# EAGLE library part ISA8-EDGE (library 8Bit_Parts)
8 bits ISA bus edge connector
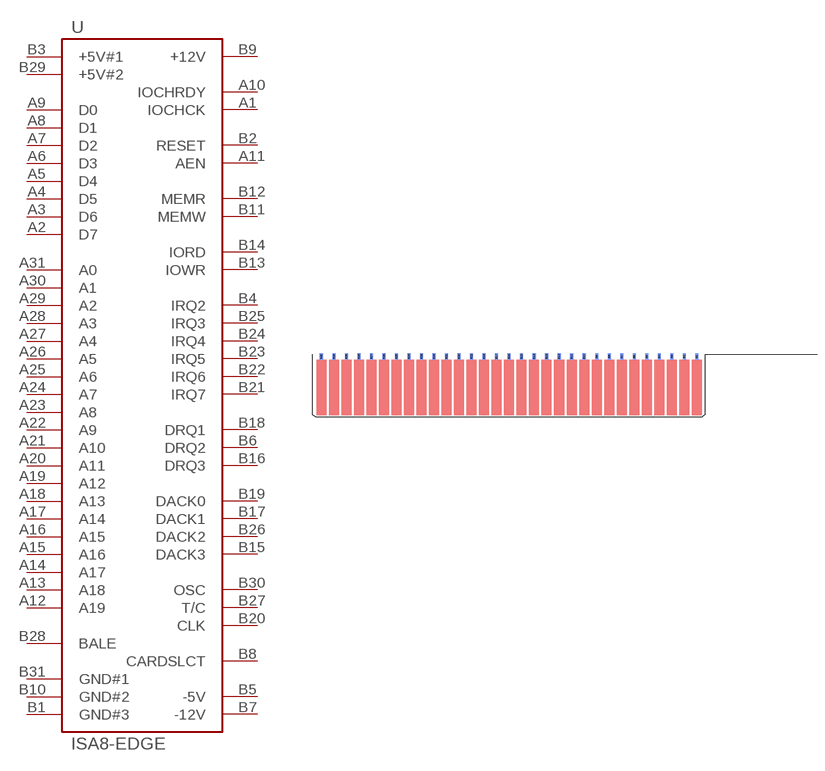
[diagram p18: symbol with the pads of ISA8-EDGE; footprint ISA8-EDGE]

Designator prefix -

## ISA8-EDGE  [ISA8-EDGE]
A1  IOCHCK  pas
A2  D7  pas
A3  D6  pas
A4  D5  pas
A5  D4  pas
A6  D3  pas
A7  D2  pas
A8  D1  pas
A9  D0  pas
A10  IOCHRDY  pas
A11  AEN  pas
A12  A19  pas
A13  A18  pas
A14  A17  pas
A15  A16  pas
A16  A15  pas
A17  A14  pas
A18  A13  pas
A19  A12  pas
A20  A11  pas
A21  A10  pas
A22  A9  pas
A23  A8  pas
A24  A7  pas
A25  A6  pas
A26  A5  pas
A27  A4  pas
A28  A3  pas
A29  A2  pas
A30  A1  pas
A31  A0  pas
B1  GND#3  sup
B2  RESET  pas
B3  +5V#1  sup
B4  IRQ2  pas
B5  -5V  sup
B6  DRQ2  pas
B7  -12V  sup
B8  CARDSLCT  pas
B9  +12V  sup
B10  GND#2  sup
B11  MEMW  pas
B12  MEMR  pas
B13  IOWR  pas
B14  IORD  pas
B15  DACK3  pas
B16  DRQ3  pas
B17  DACK1  pas
B18  DRQ1  pas
B19  DACK0  pas
B20  CLK  pas
B21  IRQ7  pas
B22  IRQ6  pas
B23  IRQ5  pas
B24  IRQ4  pas
B25  IRQ3  pas
B26  DACK2  pas
B27  T/C  pas
B28  BALE  pas
B29  +5V#2  pas
B30  OSC  pas
B31  GND#1  sup

## Footprint ISA8-EDGE (pad centres in mm)
8 bits ISA bus edge connector
smd 0.635 x 1.27: A1 78.74,12.192; A2 76.2,12.192; A3 73.66,12.192; A4 71.12,12.192; A5 68.58,12.192; A6 66.04,12.192; A7 63.5,12.192; A8 60.96,12.192; A9 58.42,12.192; A10 55.88,12.192; A11 53.34,12.192; A12 50.8,12.192; A13 48.26,12.192; A14 45.72,12.192; A15 43.18,12.192; A16 40.64,12.192; A17 38.1,12.192; A18 35.56,12.192; A19 33.02,12.192; A20 30.48,12.192; A21 27.94,12.192; A22 25.4,12.192; A23 22.86,12.192; A24 20.32,12.192; A25 17.78,12.192; A26 15.24,12.192; A27 12.7,12.192; A28 10.16,12.192; A29 7.62,12.192; A30 5.08,12.192; A31 2.54,12.192
smd 0.635 x 1.27 bottom: B1 78.74,12.192; B2 76.2,12.192; B3 73.66,12.192; B4 71.12,12.192; B5 68.58,12.192; B6 66.04,12.192; B7 63.5,12.192; B8 60.96,12.192; B9 58.42,12.192; B10 55.88,12.192; B11 53.34,12.192; B12 50.8,12.192; B13 48.26,12.192; B14 45.72,12.192; B15 43.18,12.192; B16 40.64,12.192; B17 38.1,12.192; B18 35.56,12.192; B19 33.02,12.192; B20 30.48,12.192; B21 27.94,12.192; B22 25.4,12.192; B23 22.86,12.192; B24 20.32,12.192; B25 17.78,12.192; B26 15.24,12.192; B27 12.7,12.192; B28 10.16,12.192; B29 7.62,12.192; B30 5.08,12.192; B31 2.54,12.192